# Altium footprint library TEXASINSTRUMENTS_PKG_RUX0012A.PcbLib: 1 footprints
Each footprint in its own frame and in the unit in brackets; x right, y up, seen from the top. Pads: shape width x height; smd on the part's side, far side on the other; paste and mask are expansions set on the pad; w line width, h text height; cw(c..) or ccw(c..) is an arc to the next point about the centre after c.
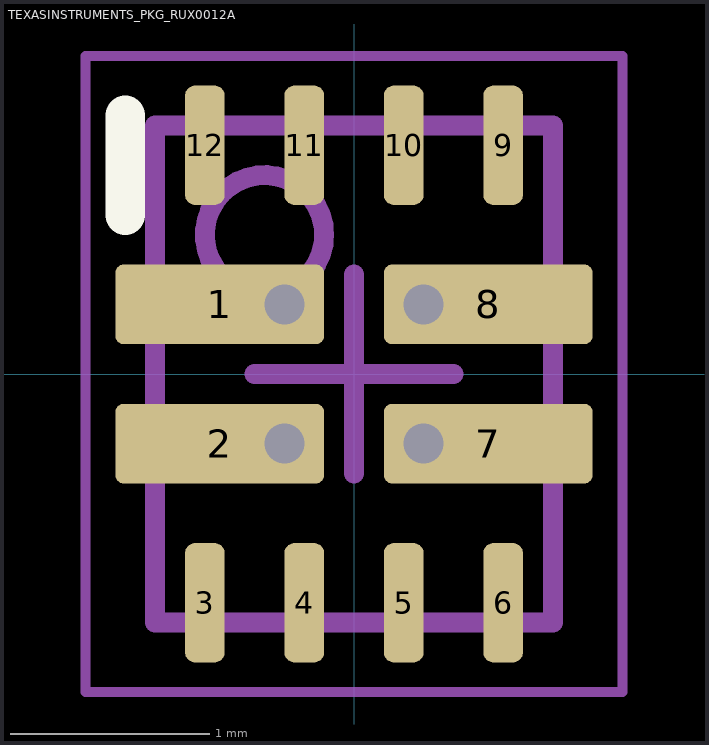
[diagram p0: the footprint, top view; thin cyan lines are the x and y axes]

## TEXASINSTRUMENTS_PKG_RUX0012A [mm] "Plastic Quad Flat-No Lead"
height 1
pads (12):
  rrect20% 1.05x0.4 smd mask+0.05: 1(-0.675,0.35) 2(-0.675,-0.35) 7(0.675,-0.35) 8(0.675,0.35)
  rrect50% 0.2x0.6 smd mask+0.05: 3(-0.75,-1.15) 4(-0.25,-1.15) 5(0.25,-1.15) 6(0.75,-1.15) 9(0.75,1.15) 10(0.25,1.15) 11(-0.25,1.15) 12(-0.75,1.15)
via 0.35,0.35 diameter 0.4 hole 0.2
via 0.35,-0.35 diameter 0.4 hole 0.2
via -0.35,-0.35 diameter 0.4 hole 0.2
via -0.35,0.35 diameter 0.4 hole 0.2
Top Overlay:
  lines w0.2: -1.15,0.8 -1.15,1.3
Mechanical 13:
  circle w0.1: c-0.45,0.7 r0.3
  lines w0.1: -1,-1.25 -1,1.25 1,1.25 1,-1.25 -1,-1.25
Mechanical 15:
  lines w0.05: -1.35,-1.6 1.35,-1.6 1.35,1.6 -1.35,1.6 -1.35,-1.6
  lines w0.1: -0.5,0 0.5,0 ; 0,-0.5 0,0.5
3D body "TEXASINSTRUMENTS_PKG_RUX0012A.stp": height 1, standoff 0, extent -1,-1.25 1,1.25